# Altium schematic symbol library Y_FA-238V_12.0000MB-K3.SchLib: 1 symbol
Pins are listed as number, name and electrical type; pins without a type are passive.

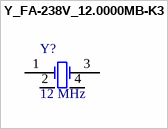
[diagram p0: symbol Y_FA-238V_12.0000MB-K3]

## Y_FA-238V_12.0000MB-K3
designator Y?, comment 12 MHz
Y_FA-238V_12.0000MB-K3
pins: 1 OSC1, 2 GND, 3 OSC2, 4 OSC2